# EAGLE library part 653112124022 (library Wire-to-Board (rev18a))
WR-WTB 1.25mm SMT Male Vertical Shrouded Header, 12 Pins=>Code : Con_WTB_1.25_PCB_SMT_653112124022 <http://katalog.we-online.de/media/thumbs2/eican/thb_Con_WTB_1.25_PCB_SMT_6530xx124022_pf2.psd.jpg> Details see: http://katalog.we-online.de/en/em/WTB_1_25_SMT_MALE_VERTICAL_SHROUDED_HEADER_6531XX124022 Created 2014-06-06, Karrer Zheng 2014 (C) Würth Elektronik
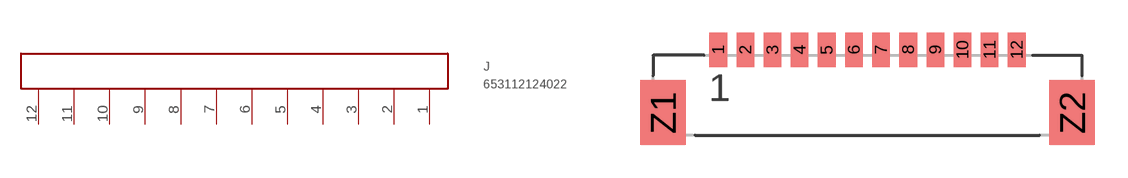
[diagram p59: symbol with the pads of 653112124022; footprint 653112124022]

Designator prefix J

## 653112124022  [653112124022]
1  12  pas
2  11  pas
3  10  pas
4  9  pas
5  8  pas
6  7  pas
7  6  pas
8  5  pas
9  4  hiz
10  3  pas
11  2  pas
12  1  pas

## Footprint 653112124022 (pad centres in mm)
WR-WTB 1.25mm SMT Male Vertical Shrouded Header, 12 Pins
smd 0.81 x 1.6: 1 -6.875,0; 2 -5.625,0; 3 -4.375,0; 4 -3.125,0; 5 -1.875,0; 6 -0.625,0; 7 0.625,0; 8 1.875,0; 9 3.125,0; 10 4.375,0; 11 5.625,0; 12 6.875,0
smd 2.1 x 3: Z1 -9.425,-2.9; Z2 9.425,-2.9